# EAGLE library part CC2520 (library X893)
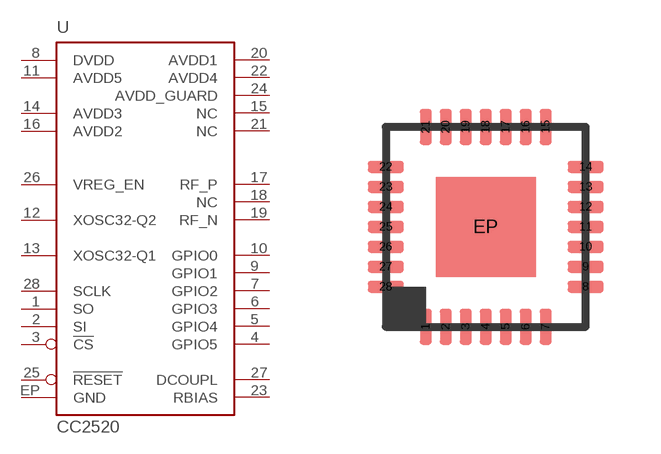
[diagram p59: symbol with the pads of QFN28-5X5; footprint QFN28-5X5]

Designator prefix U

## CC2520  [QFN28-5X5]
1  SO  out
2  SI  in
3  !CS  in
4  GPIO5
5  GPIO4
6  GPIO3
7  GPIO2
8  DVDD  pas
9  GPIO1
10  GPIO0
11  AVDD5  pas
12  XOSC32-Q2  pas
13  XOSC32-Q1  pas
14  AVDD3  pas
15  NC  pas
16  AVDD2  pas
17  RF_P  pas
18  NC  pas
19  RF_N  pas
20  AVDD1  pas
21  NC  pas
22  AVDD4  pas
23  RBIAS  pas
24  AVDD_GUARD  pas
25  !RESET  in
26  VREG_EN  in
27  DCOUPL  pas
28  SCLK  in
EP  GND  pwr

## Footprint QFN28-5X5 (pad centres in mm)
smd 0.3 x 0.9: 1 -1.5,-2.5; 2 -1,-2.5; 3 -0.5,-2.5; 4 0,-2.5; 5 0.5,-2.5; 6 1,-2.5; 7 1.5,-2.5; 15 1.5,2.5; 16 1,2.5; 17 0.5,2.5; 18 0,2.5; 19 -0.5,2.5; 20 -1,2.5; 21 -1.5,2.5
smd 0.9 x 0.3: 8 2.5,-1.5; 9 2.5,-1; 10 2.5,-0.5; 11 2.5,0; 12 2.5,0.5; 13 2.5,1; 14 2.5,1.5; 22 -2.5,1.5; 23 -2.5,1; 24 -2.5,0.5; 25 -2.5,0; 26 -2.5,-0.5; 27 -2.5,-1; 28 -2.5,-1.5
smd 0.5 x 0.5: EP 0,0